# Altium schematic symbol library TMS320F28379DZWTT.SchLib: 1 symbol
Pins are listed as number, name and electrical type; pins without a type are passive.

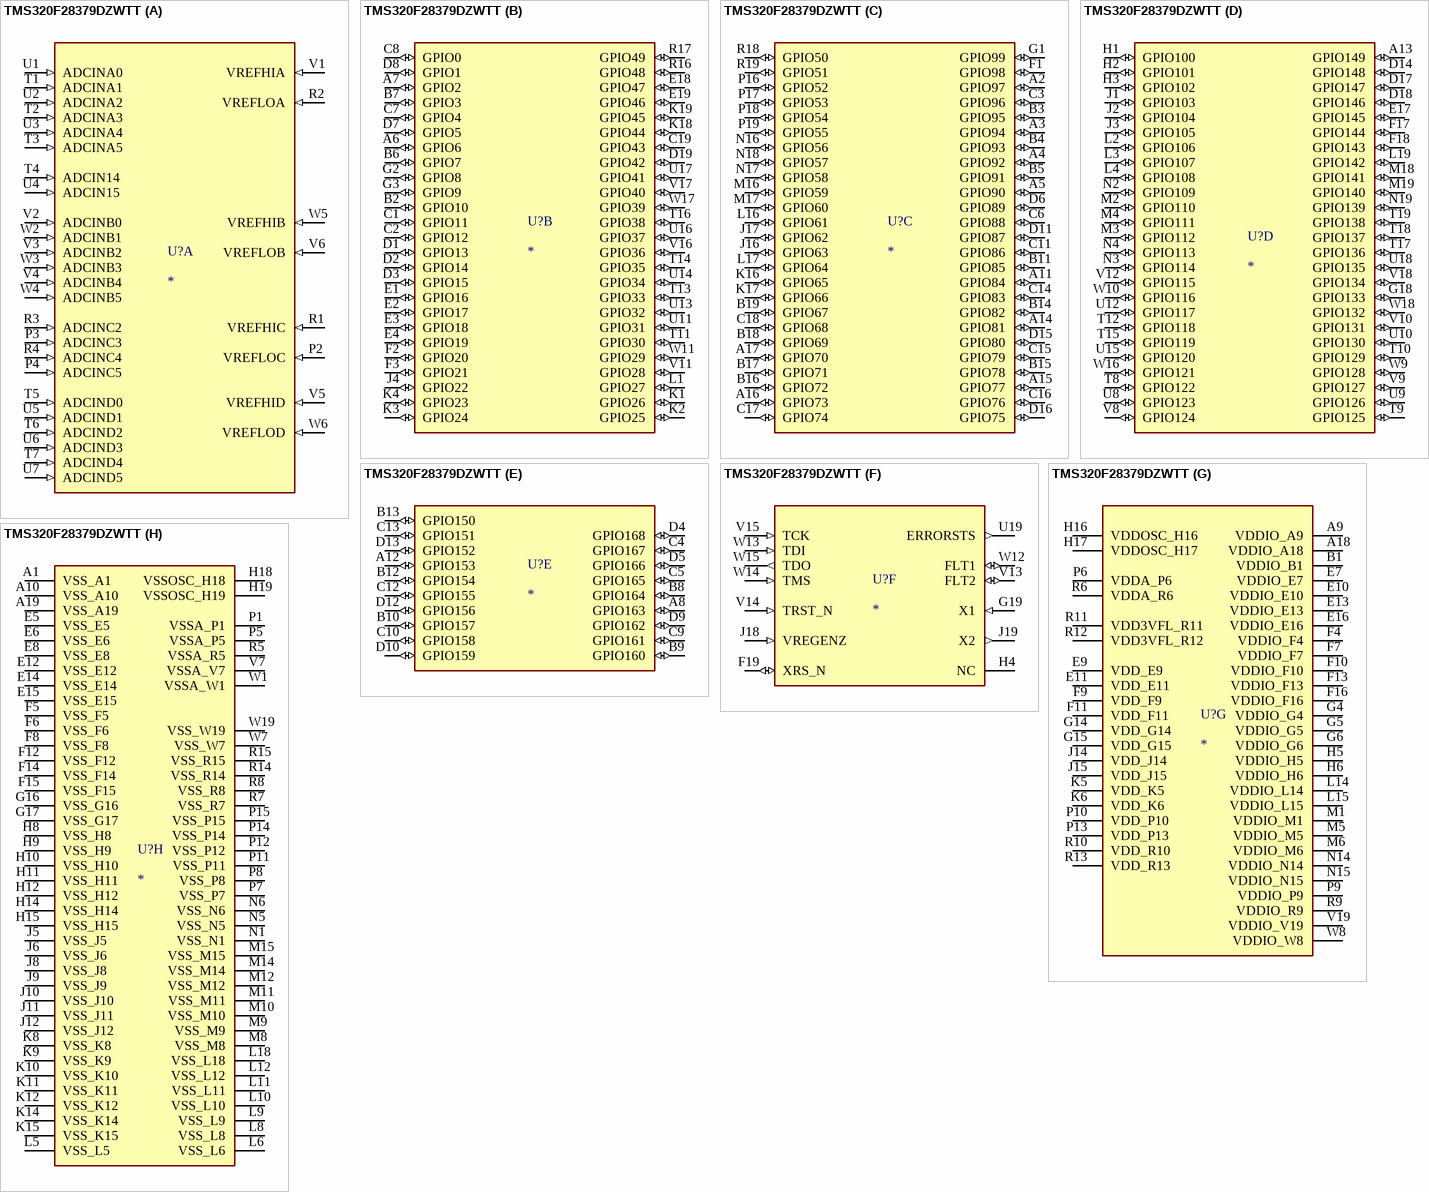
[diagram p0: symbol TMS320F28379DZWTT]

## TMS320F28379DZWTT
designator U?
C2000 32-bit MCU with 800 MIPS, 2xCPU, 2xCLA, FPU, TMU, 1024 KB Flash, CLB, EMIF, 16b ADC 337-NFBGA -40 to 105; MP: TMS320F28379DZWTT; Value: *; Availability: Unavailable; Package: None; Price: None
footprint BGA337C80P19X19_1600X1600X140N
part A pins: P2 VREFLOC (in), P3 ADCINC3 (in), P4 ADCINC5 (in), R1 VREFHIC (in), R2 VREFLOA (in), R3 ADCINC2 (in), R4 ADCINC4 (in), T1 ADCINA1 (in), T2 ADCINA3 (in), T3 ADCINA5 (in), T4 ADCIN14 (in), T5 ADCIND0 (in), T6 ADCIND2 (in), T7 ADCIND4 (in), U1 ADCINA0 (in), U2 ADCINA2 (in), U3 ADCINA4 (in), U4 ADCIN15 (in), U5 ADCIND1 (in), U6 ADCIND3 (in), U7 ADCIND5 (in), V1 VREFHIA (in), V2 ADCINB0 (in), V3 ADCINB2 (in), V4 ADCINB4 (in), V5 VREFHID (in), V6 VREFLOB (in), W2 ADCINB1 (in), W3 ADCINB3 (in), W4 ADCINB5 (in), W5 VREFHIB (in), W6 VREFLOD (in)
part B pins: A6 GPIO6 (io), A7 GPIO2 (io), B2 GPIO10 (io), B6 GPIO7 (io), B7 GPIO3 (io), C1 GPIO11 (io), C2 GPIO12 (io), C7 GPIO4 (io), C8 GPIO0 (io), C19 GPIO43 (io), D1 GPIO13 (io), D2 GPIO14 (io), D3 GPIO15 (io), D7 GPIO5 (io), D8 GPIO1 (io), D19 GPIO42 (io), E1 GPIO16 (io), E2 GPIO17 (io), E3 GPIO18 (io), E4 GPIO19 (io), E18 GPIO47 (io), E19 GPIO46 (io), F2 GPIO20 (io), F3 GPIO21 (io), G2 GPIO8 (io), G3 GPIO9 (io), J4 GPIO22 (io), K1 GPIO26 (io), K2 GPIO25 (io), K3 GPIO24 (io), K4 GPIO23 (io), K18 GPIO44 (io), K19 GPIO45 (io), L1 GPIO27 (io), R16 GPIO48 (io), R17 GPIO49 (io), T11 GPIO30 (io), T13 GPIO33 (io), T14 GPIO35 (io), T16 GPIO38 (io), U11 GPIO31 (io), U13 GPIO32 (io), U14 GPIO34 (io), U16 GPIO37 (io), U17 GPIO41 (io), V11 GPIO28 (io), V16 GPIO36 (io), V17 GPIO40 (io), W11 GPIO29 (io), W17 GPIO39 (io)
part C pins: A2 GPIO97 (io), A3 GPIO94 (io), A4 GPIO92 (io), A5 GPIO90 (io), A11 GPIO84 (io), A14 GPIO81 (io), A15 GPIO77 (io), A16 GPIO73 (io), A17 GPIO70 (io), B3 GPIO95 (io), B4 GPIO93 (io), B5 GPIO91 (io), B11 GPIO85 (io), B14 GPIO82 (io), B15 GPIO78 (io), B16 GPIO72 (io), B17 GPIO71 (io), B18 GPIO69 (io), B19 GPIO67 (io), C3 GPIO96 (io), C6 GPIO88 (io), C11 GPIO86 (io), C14 GPIO83 (io), C15 GPIO79 (io), C16 GPIO76 (io), C17 GPIO74 (io), C18 GPIO68 (io), D6 GPIO89 (io), D11 GPIO87 (io), D15 GPIO80 (io), D16 GPIO75 (io), F1 GPIO98 (io), G1 GPIO99 (io), J16 GPIO63 (io), J17 GPIO62 (io), K16 GPIO65 (io), K17 GPIO66 (io), L16 GPIO61 (io), L17 GPIO64 (io), M16 GPIO59 (io), M17 GPIO60 (io), N16 GPIO56 (io), N17 GPIO58 (io), N18 GPIO57 (io), P16 GPIO52 (io), P17 GPIO53 (io), P18 GPIO54 (io), P19 GPIO55 (io), R18 GPIO50 (io), R19 GPIO51 (io)
part D pins: A13 GPIO149 (io), D14 GPIO148 (io), D17 GPIO147 (io), D18 GPIO146 (io), E17 GPIO145 (io), F17 GPIO144 (io), F18 GPIO143 (io), G18 GPIO133 (io), H1 GPIO100 (io), H2 GPIO101 (io), H3 GPIO102 (io), J1 GPIO103 (io), J2 GPIO104 (io), J3 GPIO105 (io), L2 GPIO106 (io), L3 GPIO107 (io), L4 GPIO108 (io), L19 GPIO142 (io), M2 GPIO110 (io), M3 GPIO112 (io), M4 GPIO111 (io), M18 GPIO141 (io), M19 GPIO140 (io), N2 GPIO109 (io), N3 GPIO114 (io), N4 GPIO113 (io), N19 GPIO139 (io), T8 GPIO122 (io), T9 GPIO125 (io), T10 GPIO129 (io), T12 GPIO118 (io), T15 GPIO119 (io), T17 GPIO136 (io), T18 GPIO137 (io), T19 GPIO138 (io), U8 GPIO123 (io), U9 GPIO126 (io), U10 GPIO130 (io), U12 GPIO117 (io), U15 GPIO120 (io), U18 GPIO135 (io), V8 GPIO124 (io), V9 GPIO127 (io), V10 GPIO131 (io), V12 GPIO115 (io), V18 GPIO134 (io), W9 GPIO128 (io), W10 GPIO116 (io), W16 GPIO121 (io), W18 GPIO132 (io)
part E pins: A8 GPIO163 (io), A12 GPIO153 (io), B8 GPIO164 (io), B9 GPIO160 (io), B10 GPIO157 (io), B12 GPIO154 (io), B13 GPIO150 (io), C4 GPIO167 (io), C5 GPIO165 (io), C9 GPIO161 (io), C10 GPIO158 (io), C12 GPIO155 (io), C13 GPIO151 (io), D4 GPIO168 (io), D5 GPIO166 (io), D9 GPIO162 (io), D10 GPIO159 (io), D12 GPIO156 (io), D13 GPIO152 (io)
part F pins: F19 XRS_N (io), G19 X1 (in), H4 NC, J18 VREGENZ (in), J19 X2 (out), U19 ERRORSTS (out), V13 FLT2 (io), V14 TRST_N (in), V15 TCK (in), W12 FLT1 (io), W13 TDI (in), W14 TMS (in), W15 TDO (out)
part G pins: A9 VDDIO_A9 (power), A18 VDDIO_A18 (power), B1 VDDIO_B1 (power), E7 VDDIO_E7 (power), E9 VDD_E9 (power), E10 VDDIO_E10 (power), E11 VDD_E11 (power), E13 VDDIO_E13 (power), E16 VDDIO_E16 (power), F4 VDDIO_F4 (power), F7 VDDIO_F7 (power), F9 VDD_F9 (power), F10 VDDIO_F10 (power), F11 VDD_F11 (power), F13 VDDIO_F13 (power), F16 VDDIO_F16 (power), G4 VDDIO_G4 (power), G5 VDDIO_G5 (power), G6 VDDIO_G6 (power), G14 VDD_G14 (power), G15 VDD_G15 (power), H5 VDDIO_H5 (power), H6 VDDIO_H6 (power), H16 VDDOSC_H16 (power), H17 VDDOSC_H17 (power), J14 VDD_J14 (power), J15 VDD_J15 (power), K5 VDD_K5 (power), K6 VDD_K6 (power), L14 VDDIO_L14 (power), L15 VDDIO_L15 (power), M1 VDDIO_M1 (power), M5 VDDIO_M5 (power), M6 VDDIO_M6 (power), N14 VDDIO_N14 (power), N15 VDDIO_N15 (power), P6 VDDA_P6 (power), P9 VDDIO_P9 (power), P10 VDD_P10 (power), P13 VDD_P13 (power), R6 VDDA_R6 (power), R9 VDDIO_R9 (power), R10 VDD_R10 (power), R11 VDD3VFL_R11 (power), R12 VDD3VFL_R12 (power), R13 VDD_R13 (power), V19 VDDIO_V19 (power), W8 VDDIO_W8 (power)
part H pins: A1 VSS_A1 (power), A10 VSS_A10 (power), A19 VSS_A19 (power), E5 VSS_E5 (power), E6 VSS_E6 (power), E8 VSS_E8 (power), E12 VSS_E12 (power), E14 VSS_E14 (power), E15 VSS_E15 (power), F5 VSS_F5 (power), F6 VSS_F6 (power), F8 VSS_F8 (power), F12 VSS_F12 (power), F14 VSS_F14 (power), F15 VSS_F15 (power), G16 VSS_G16 (power), G17 VSS_G17 (power), H8 VSS_H8 (power), H9 VSS_H9 (power), H10 VSS_H10 (power), H11 VSS_H11 (power), H12 VSS_H12 (power), H14 VSS_H14 (power), H15 VSS_H15 (power), H18 VSSOSC_H18 (power), H19 VSSOSC_H19 (power), J5 VSS_J5 (power), J6 VSS_J6 (power), J8 VSS_J8 (power), J9 VSS_J9 (power), J10 VSS_J10 (power), J11 VSS_J11 (power), J12 VSS_J12 (power), K8 VSS_K8 (power), K9 VSS_K9 (power), K10 VSS_K10 (power), K11 VSS_K11 (power), K12 VSS_K12 (power), K14 VSS_K14 (power), K15 VSS_K15 (power), L5 VSS_L5 (power), L6 VSS_L6 (power), L8 VSS_L8 (power), L9 VSS_L9 (power), L10 VSS_L10 (power), L11 VSS_L11 (power), L12 VSS_L12 (power), L18 VSS_L18 (power), M8 VSS_M8 (power), M9 VSS_M9 (power), M10 VSS_M10 (power), M11 VSS_M11 (power), M12 VSS_M12 (power), M14 VSS_M14 (power), M15 VSS_M15 (power), N1 VSS_N1 (power), N5 VSS_N5 (power), N6 VSS_N6 (power), P1 VSSA_P1 (power), P5 VSSA_P5 (power), P7 VSS_P7 (power), P8 VSS_P8 (power), P11 VSS_P11 (power), P12 VSS_P12 (power), P14 VSS_P14 (power), P15 VSS_P15 (power), R5 VSSA_R5 (power), R7 VSS_R7 (power), R8 VSS_R8 (power), R14 VSS_R14 (power), R15 VSS_R15 (power), V7 VSSA_V7 (power), W1 VSSA_W1 (power), W7 VSS_W7 (power), W19 VSS_W19 (power)